# Altium schematic symbol library R-CRCW060349R9FKEA.Schlib: 1 symbol
Pins are listed as number, name and electrical type; pins without a type are passive.

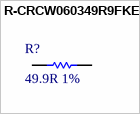
[diagram p0: symbol R-CRCW060349R9FKEA]

## R-CRCW060349R9FKEA
designator R?, comment 49.9R 1%
Thick Film Resistors - SMD 1/10watt 49.9ohms 1%
pins: 1, 2